# Altium integrated library Texas Instruments Interface 1394.IntLib: 47 symbols (part 13 of 17)
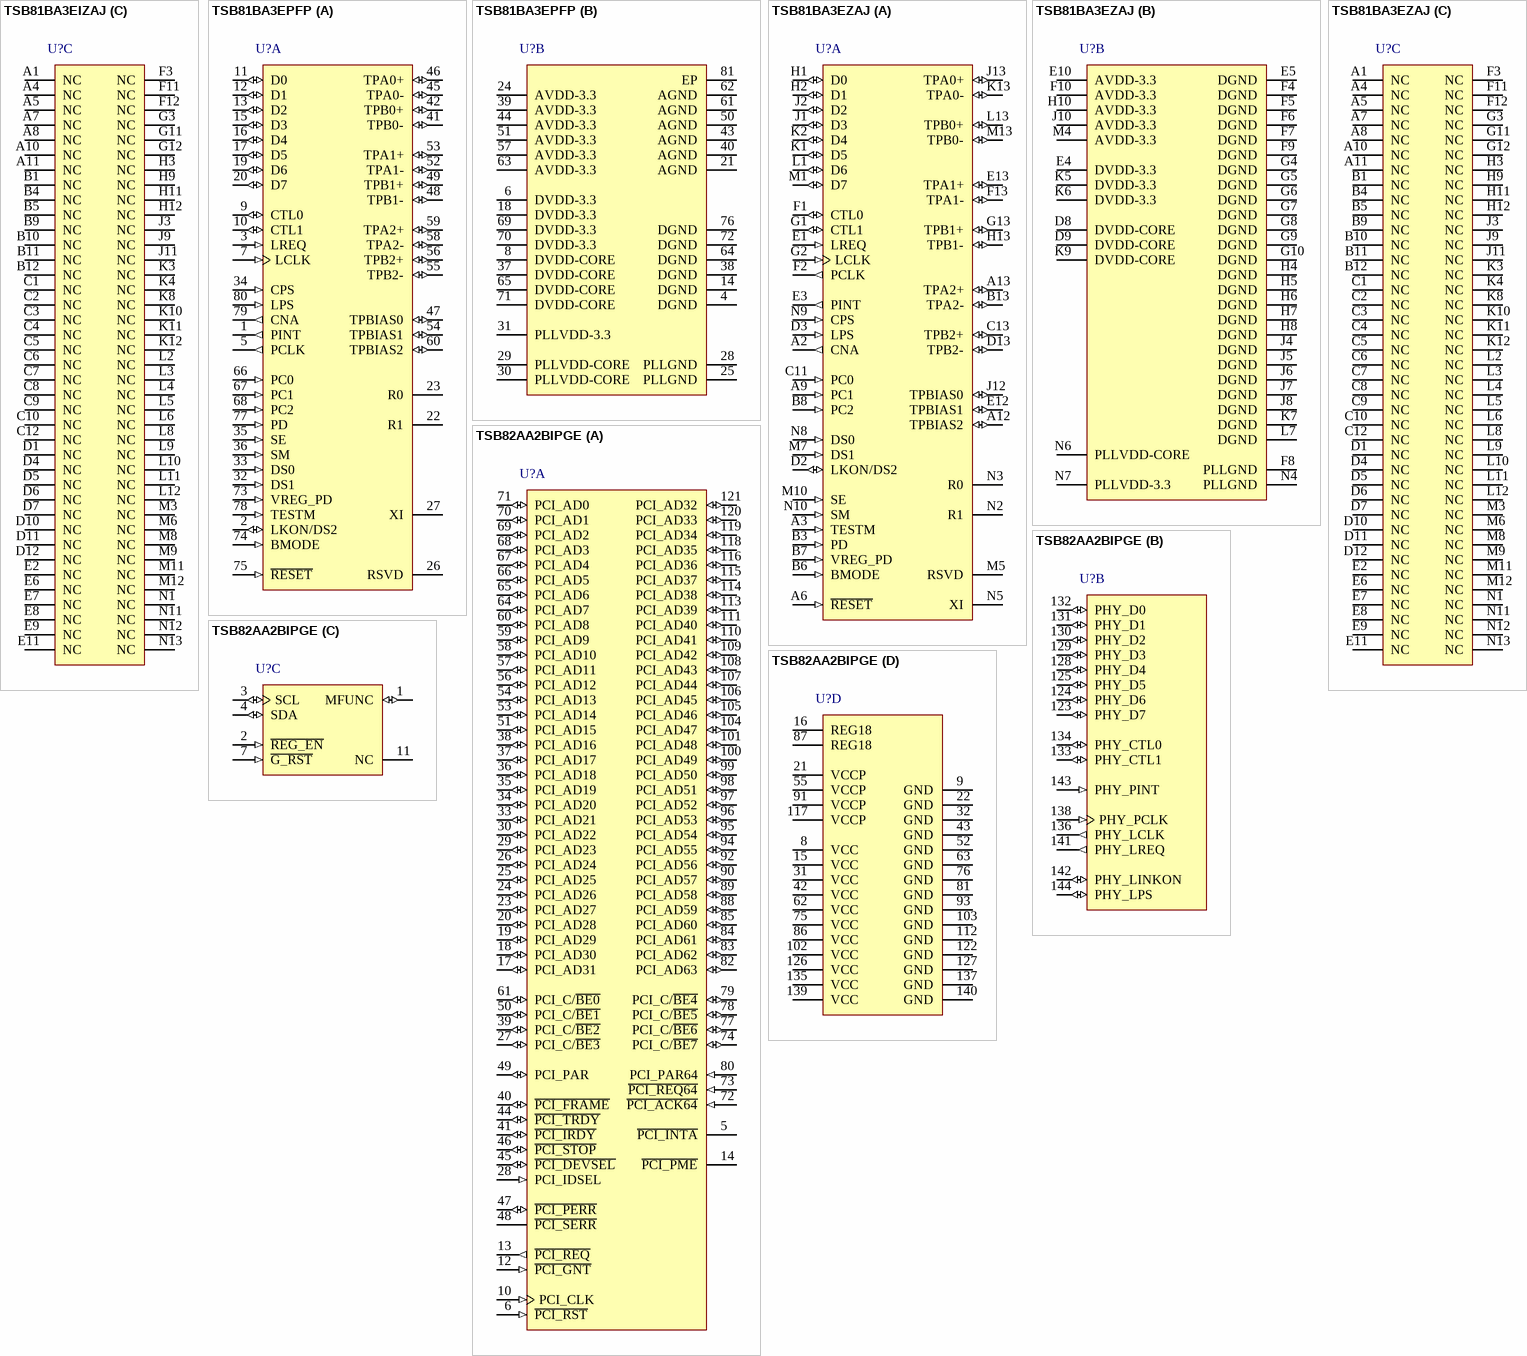
[diagram p23: symbols TSB81BA3EIZAJ to TSB82AA2BIPGE]

## TSB81BA3EZAJ
designator U?
800 Mbps IEEE P1394b Three-Port Cable Transceiver Arbiter, 1.8 / 3.3V, 0 to 70 degC, 168-Pin NFBGA (ZAJ), Green (RoHS & no Sb/Br); PartNumber: TSB81BA3EZAJ; Manufacturer: Texas Instruments; SubFamily: 1394 Physical Layer Controller; Speed(Max)(Mbps): 800; Ports: 3; Supply Voltage(s)(V): 1.8, 3.3; 1394: True; Rating: Catalog; DatasheetVersion: SLLS783A; PackageVersion: revD, Aug-2008; PackageReference: ZAJ168; PackageDescription: 168-Ball Plastic Ball Grid Array, 7 x 7 mm Body, 0.5 mm Pitch; Mounting Technology: Surface Mount; Eco-Plan: Green (RoHS & no Sb/Br); 1394b: True; ComponentLink1Description: Datasheet; ComponentLink1URL: http://www.ti.com/general/docs/lit/getliterature.tsp?genericPartNumber=TSB81BA3E&fileType=pdf; ComponentLink2Description: Package Specification; ComponentLink2URL: http://www.ti.com/lit/ml/mpbg233/mpbg233.pdf
footprint ZAJ168 (BGA, 168-Leads, Body 7x7mm, Pitch 0.5mm)
part A pins: A2 CNA (out) "Cable not active output.This terminal is asserted high when there are no ports receiving incoming bias voltage. When any port receives bias, this terminal goes low.", A3 TESTM (in) "Test control input. This input is used in the manufacturing test of the TSB81BA3E. For normal use this terminal must be pulled high through a 1-k ohm resistor to VDD.", A6 ~{RESET} (in) "Logic reset input. Asserting this terminal low resets the internal logic. [see datasheet]", A9 PC1 (in) "Power class programming inputs. On hardware reset, these inputs set the default value of the power class indicated during self-ID. [see datasheet]", A12 TPBIAS2 (io) "Twisted-pair bias output and signal detect input. This provides the 1. [see datasheet]", A13 TPA2+ (io) "Port-2 twisted-pair differential-signal terminals. [see datasheet]", B3 PD (in) "Power-down input. A high on this terminal turns off all internal circuitry except the cable-active monitor circuits, which control the CNA output. [see datasheet]", B6 BMODE (in) "Beta-mode input. This terminal determines the PHY-link interface connection protocol. [see datasheet]", B7 VREG_PD (in) "Voltage regulator power-down input. When asserted logic high, this pin will power-down the internal 3.3-V to 1.95-V regulator. For single 3. [see datasheet]", B8 PC2 (in) "Power class programming inputs. On hardware reset, these inputs set the default value of the power class indicated during self-ID. [see datasheet]", B13 TPA2- (io) "Port-2 twisted-pair differential-signal terminals. [see datasheet]", C11 PC0 (in) "Power class programming inputs. On hardware reset, these inputs set the default value of the power class indicated during self-ID. [see datasheet]", C13 TPB2+ (io) "Port-2 twisted-pair differential-signal terminals. [see datasheet]", D2 LKON/DS2 (io) "Link-on output/Data-strobe-only input for port 2. [see datasheet]", D3 LPS (in) "Link power status input. This terminal monitors the active/power status of the link-layer controller (LLC) and controls the state of the PHY-LLC interface. [see datasheet]", D13 TPB2- (io) "Port-2 twisted-pair differential-signal terminals. [see datasheet]", E1 LREQ (in) "LLC request input. The LLC uses this input to initiate a service request to the TSB81BA3E. A bus holder is built into this terminal.", E3 PINT (out) "PHY interrupt. The PHY uses this output to serially transfer status and interrupt information to the link when PHY-link interface is in the 1394b mode. [see datasheet]", E12 TPBIAS1 (io) "Twisted-pair bias output and signal detect input. This provides the 1. [see datasheet]", E13 TPA1+ (io) "Port-1 twisted-pair differential-signal terminals. [see datasheet]", F1 CTL0 (io) "Control I/Os. These bidirectional signals control communication between the TSB81BA3E and the LLC. Bus holders are built into these terminals.", F2 PCLK (out) "PHY clock. Provides a 98.304-MHz clock signal, synchronized with data transfers, to the LLC when the PHY-link interface is operating in the 1394b mode (BMODE asserted). [see datasheet]", F13 TPA1- (io) "Port-1 twisted-pair differential-signal terminals. [see datasheet]", G1 CTL1 (io) "Control I/Os. These bidirectional signals control communication between the TSB81BA3E and the LLC. Bus holders are built into these terminals.", G2 LCLK (in) "Link clock. Link-provided 98.304-MHz clock signal to synchronize data transfers from link to the PHY when the PHY-link interface is in the 1394b mode. [see datasheet]", G13 TPB1+ (io) "Port-1 twisted-pair differential-signal terminals. [see datasheet]", H1 D0 (io) "Data I/Os. These are bidirectional data signals between the TSB82BA3 and the LLC. Bus holders are built into these terminals.", H2 D1 (io) "Data I/Os. These are bidirectional data signals between the TSB82BA3 and the LLC. Bus holders are built into these terminals.", H13 TPB1- (io) "Port-1 twisted-pair differential-signal terminals. [see datasheet]", J1 D3 (io) "Data I/Os. These are bidirectional data signals between the TSB82BA3 and the LLC. Bus holders are built into these terminals.", J2 D2 (io) "Data I/Os. These are bidirectional data signals between the TSB82BA3 and the LLC. Bus holders are built into these terminals.", J12 TPBIAS0 (io) "Twisted-pair bias output and signal detect input. This provides the 1. [see datasheet]", J13 TPA0+ (io) "Port-0 twisted-pair differential-signal terminals. [see datasheet]", K1 D5 (io) "Data I/Os. These are bidirectional data signals between the TSB82BA3 and the LLC. Bus holders are built into these terminals.", K2 D4 (io) "Data I/Os. These are bidirectional data signals between the TSB82BA3 and the LLC. Bus holders are built into these terminals.", K13 TPA0- (io) "Port-0 twisted-pair differential-signal terminals. [see datasheet]", L1 D6 (io) "Data I/Os. These are bidirectional data signals between the TSB82BA3 and the LLC. Bus holders are built into these terminals.", L13 TPB0+ (io) "Port-0 twisted-pair differential-signal terminals. [see datasheet]", M1 D7 (io) "Data I/Os. These are bidirectional data signals between the TSB82BA3 and the LLC. Bus holders are built into these terminals.", M5 RSVD "This terminal must normally be left unconnected. When this terminal is probed, the terminal shows a 98.304-MHz signal. If this is perceived as an EMI problem, then the terminal may be pulled to ground through a 10-k ohm resistor. However, this causes an", M7 DS1 (in) "Data-strobe-only mode for port 1. 1394a-only port 1 enable programming terminal. [see datasheet]", M10 SE (in) "Test control input. This input is used in the manufacturing test of the TSB81BA3E. [see datasheet]", M13 TPB0- (io) "Port-0 twisted-pair differential-signal terminals. [see datasheet]", N2 R1 "Current setting resistor terminals. These terminals are connected to a precision external resistance to set the internal operating currents and cable driver output currents. [see datasheet]", N3 R0 "Current setting resistor terminals. These terminals are connected to a precision external resistance to set the internal operating currents and cable driver output currents. [see datasheet]", N5 XI "Oscillator input. This terminal connects to a 98.304-MHz low jitter external oscillator. The XI terminal is a 1.8-V CMOS input.Oscillator jitter must be 5 ps RMS or better.If only 3. [see datasheet]", N8 DS0 (in) "Data-strobe-only mode for port 0. 1394a-only port 1 enable programming terminal. [see datasheet]", N9 CPS (in) "Cable-power status input.This terminal is normally connected to cable power through a 400-k ohm resistor. [see datasheet]", N10 SM (in) "Test control input. This input is used in the manufacturing test of the TSB81BA3E. [see datasheet]"
part B pins: D8 DVDD-CORE (power) "Digital core circuit power terminals.A combination of high-frequency decoupling capacitors near each terminal is suggested, such as paralleled 0.1uF and 0.001uF. [see datasheet]", D9 DVDD-CORE (power) "Digital core circuit power terminals.A combination of high-frequency decoupling capacitors near each terminal is suggested, such as paralleled 0.1uF and 0.001uF. [see datasheet]", E4 DVDD-3.3 (power) "Digital 3.3-V circuit power terminals. A combination of high-frequency decoupling capacitors near each terminal is suggested, such as paralleled 0.1 uF and 0.001 uF. [see datasheet]", E5 DGND (power) "Digital circuit ground terminals. These terminals must be tied together to the low-impedance circuit board ground plane.", E10 AVDD-3.3 (power) "Analog circuit power terminals. A combination of high-frequency decoupling capacitors near each terminal is suggested, such as paralleled 0.1 uF and 0.001 uF. [see datasheet]", F4 DGND (power) "Digital circuit ground terminals. These terminals must be tied together to the low-impedance circuit board ground plane.", F5 DGND (power) "Digital circuit ground terminals. These terminals must be tied together to the low-impedance circuit board ground plane.", F6 DGND (power) "Digital circuit ground terminals. These terminals must be tied together to the low-impedance circuit board ground plane.", F7 DGND (power) "Digital circuit ground terminals. These terminals must be tied together to the low-impedance circuit board ground plane.", F8 PLLGND (power) "PLL circuit ground terminals. These terminals must be tied together to the low-impedance circuit board ground plane.", F9 DGND (power) "Digital circuit ground terminals. These terminals must be tied together to the low-impedance circuit board ground plane.", F10 AVDD-3.3 (power) "Analog circuit power terminals. A combination of high-frequency decoupling capacitors near each terminal is suggested, such as paralleled 0.1 uF and 0.001 uF. [see datasheet]", G4 DGND (power) "Digital circuit ground terminals. These terminals must be tied together to the low-impedance circuit board ground plane.", G5 DGND (power) "Digital circuit ground terminals. These terminals must be tied together to the low-impedance circuit board ground plane.", G6 DGND (power) "Digital circuit ground terminals. These terminals must be tied together to the low-impedance circuit board ground plane.", G7 DGND (power) "Digital circuit ground terminals. These terminals must be tied together to the low-impedance circuit board ground plane.", G8 DGND (power) "Digital circuit ground terminals. These terminals must be tied together to the low-impedance circuit board ground plane.", G9 DGND (power) "Digital circuit ground terminals. These terminals must be tied together to the low-impedance circuit board ground plane.", G10 DGND (power) "Digital circuit ground terminals. These terminals must be tied together to the low-impedance circuit board ground plane.", H4 DGND (power) "Digital circuit ground terminals. These terminals must be tied together to the low-impedance circuit board ground plane.", H5 DGND (power) "Digital circuit ground terminals. These terminals must be tied together to the low-impedance circuit board ground plane.", H6 DGND (power) "Digital circuit ground terminals. These terminals must be tied together to the low-impedance circuit board ground plane.", H7 DGND (power) "Digital circuit ground terminals. These terminals must be tied together to the low-impedance circuit board ground plane.", H8 DGND (power) "Digital circuit ground terminals. These terminals must be tied together to the low-impedance circuit board ground plane.", H10 AVDD-3.3 (power) "Analog circuit power terminals. A combination of high-frequency decoupling capacitors near each terminal is suggested, such as paralleled 0.1 uF and 0.001 uF. [see datasheet]", J4 DGND (power) "Digital circuit ground terminals. These terminals must be tied together to the low-impedance circuit board ground plane.", J5 DGND (power) "Digital circuit ground terminals. These terminals must be tied together to the low-impedance circuit board ground plane.", J6 DGND (power) "Digital circuit ground terminals. These terminals must be tied together to the low-impedance circuit board ground plane.", J7 DGND (power) "Digital circuit ground terminals. These terminals must be tied together to the low-impedance circuit board ground plane.", J8 DGND (power) "Digital circuit ground terminals. These terminals must be tied together to the low-impedance circuit board ground plane.", J10 AVDD-3.3 (power) "Analog circuit power terminals. A combination of high-frequency decoupling capacitors near each terminal is suggested, such as paralleled 0.1 uF and 0.001 uF. [see datasheet]", K5 DVDD-3.3 (power) "Digital 3.3-V circuit power terminals. A combination of high-frequency decoupling capacitors near each terminal is suggested, such as paralleled 0.1 uF and 0.001 uF. [see datasheet]", K6 DVDD-3.3 (power) "Digital 3.3-V circuit power terminals. A combination of high-frequency decoupling capacitors near each terminal is suggested, such as paralleled 0.1 uF and 0.001 uF. [see datasheet]", K7 DGND (power) "Digital circuit ground terminals. These terminals must be tied together to the low-impedance circuit board ground plane.", K9 DVDD-CORE (power) "Digital core circuit power terminals.A combination of high-frequency decoupling capacitors near each terminal is suggested, such as paralleled 0.1uF and 0.001uF. [see datasheet]", L7 DGND (power) "Digital circuit ground terminals. These terminals must be tied together to the low-impedance circuit board ground plane.", M4 AVDD-3.3 (power) "Analog circuit power terminals. A combination of high-frequency decoupling capacitors near each terminal is suggested, such as paralleled 0.1 uF and 0.001 uF. [see datasheet]", N4 PLLGND (power) "PLL circuit ground terminals. These terminals must be tied together to the low-impedance circuit board ground plane.", N6 PLLVDD-CORE (power) "PLL core circuit power terminals. A combination of high-frequency decoupling capacitors near each terminal is suggested, such as paralleled 0.1 uF and 0.001 uF. An additional 1-uF capacitor is required for voltage regulation. [see datasheet]", N7 PLLVDD-3.3 (power) "PLL 3.3-V circuit power terminal. A combination of high-frequency decoupling capacitors near the terminal are suggested, such as paralleled 0.1uF and 0.001uF. Lower frequency 10-uF filtering capacitors are also recommended. [see datasheet]"
part C pins: A1 NC, A4 NC, A5 NC, A7 NC, A8 NC, A10 NC, A11 NC, B1 NC, B4 NC, B5 NC, B9 NC, B10 NC, B11 NC, B12 NC, C1 NC, C2 NC, C3 NC, C4 NC, C5 NC, C6 NC, C7 NC, C8 NC, C9 NC, C10 NC, C12 NC, D1 NC, D4 NC, D5 NC, D6 NC, D7 NC, D10 NC, D11 NC, D12 NC, E2 NC, E6 NC, E7 NC, E8 NC, E9 NC, E11 NC, F3 NC, F11 NC, F12 NC, G3 NC, G11 NC, G12 NC, H3 NC, H9 NC, H11 NC, H12 NC, J3 NC, J9 NC, J11 NC, K3 NC, K4 NC, K8 NC, K10 NC, K11 NC, K12 NC, L2 NC, L3 NC, L4 NC, L5 NC, L6 NC, L8 NC, L9 NC, L10 NC, L11 NC, L12 NC, M3 NC, M6 NC, M8 NC, M9 NC, M11 NC, M12 NC, N1 NC, N11 NC, N12 NC, N13 NC

## TSB82AA2BIPGE
designator U?
1394b OHCI-Lynx Controller, -40 to 85 degC, 144-Pin LQFP (PGE), Green (RoHS & no Sb/Br); PartNumber: TSB82AA2BIPGE; Manufacturer: Texas Instruments; SubFamily: 1394 Link Layer Controller; Speed(Max)(Mbps): 800; FIFO(kb): 11; Supply Voltage(s)(V): 3.3; DatasheetVersion: SCPS172A; PackageVersion: revC, Oct-1996; PackageReference: PGE144; PackageDescription: 144-Pin Plastic Quad Flat Pack, 20 x 20 mm Body, 0.5 mm Pitch; Mounting Technology: Surface Mount; ComponentLink1Description: Datasheet; ComponentLink1URL: http://www.ti.com/general/docs/lit/getliterature.tsp?genericPartNumber=TSB82AA2B&fileType=pdf; ComponentLink2Description: Package Specification; ComponentLink2URL: http://www.ti.com/litv/pdf/mtqf017a
footprint TI-PGE144_N (Thin QFP, 144-Leads, Body 20x20mm, Pitch 0.5mm, IPC Medium Density)
footprint TI-PGE144_L (Thin QFP, 144-Leads, Body 20x20mm, Pitch 0.5mm, IPC High Density)
footprint TI-PGE144_M (Thin QFP, 144-Leads, Body 20x20mm, Pitch 0.5mm, IPC Low Density)
part A pins: 5 ~{PCI_INTA} (oc) "Interrupt signal. This output indicates interrupts from the TSB82AA2B device to the host. This terminal is implemented as open-drain.", 6 ~{PCI_RST} (in) "PCI reset. [see datasheet]", 10 PCI_CLK (in) "PCI bus clock. Provides timing for all transactions on the PCI bus. All PCI signals are sampled at the rising edge of PCI_CLK.", 12 ~{PCI_GNT} (in) "PCI bus grant. This signal is driven by the PCI bus arbiter to grant the TSB82AA2B device access to the PCI bus after the current data transaction has completed. [see datasheet]", 13 ~{PCI_REQ} (out) "PCI bus request. Asserted by the TSB82AA2B device to request access to the bus as an initiator. [see datasheet]", 14 ~{PCI_PME} (oc) "This terminal indicates wake events to the host. [see datasheet]", 17 PCI_AD31 (io) "PCI address/data bus for the lower DWORD. These signals make up the multiplexed PCI address and data bus for the lower 32 bits on the PCI interface. [see datasheet]", 18 PCI_AD30 (io) "PCI address/data bus for the lower DWORD. These signals make up the multiplexed PCI address and data bus for the lower 32 bits on the PCI interface. [see datasheet]", 19 PCI_AD29 (io) "PCI address/data bus for the lower DWORD. These signals make up the multiplexed PCI address and data bus for the lower 32 bits on the PCI interface. [see datasheet]", 20 PCI_AD28 (io) "PCI address/data bus for the lower DWORD. These signals make up the multiplexed PCI address and data bus for the lower 32 bits on the PCI interface. [see datasheet]", 23 PCI_AD27 (io) "PCI address/data bus for the lower DWORD. These signals make up the multiplexed PCI address and data bus for the lower 32 bits on the PCI interface. [see datasheet]", 24 PCI_AD26 (io) "PCI address/data bus for the lower DWORD. These signals make up the multiplexed PCI address and data bus for the lower 32 bits on the PCI interface. [see datasheet]", 25 PCI_AD25 (io) "PCI address/data bus for the lower DWORD. These signals make up the multiplexed PCI address and data bus for the lower 32 bits on the PCI interface. [see datasheet]", 26 PCI_AD24 (io) "PCI address/data bus for the lower DWORD. These signals make up the multiplexed PCI address and data bus for the lower 32 bits on the PCI interface. [see datasheet]", 27 PCI_C/~{BE3} (io) "PCI bus commands and byte enables for lower DWORD. The command and byte enable signals are multiplexed on the same PCI terminals. [see datasheet]", 28 PCI_IDSEL (in) "Initialization device select. PCI_IDSEL selects the TSB82AA2B device during configuration space accesses. [see datasheet]", 29 PCI_AD23 (io) "PCI address/data bus for the lower DWORD. These signals make up the multiplexed PCI address and data bus for the lower 32 bits on the PCI interface. [see datasheet]", 30 PCI_AD22 (io) "PCI address/data bus for the lower DWORD. These signals make up the multiplexed PCI address and data bus for the lower 32 bits on the PCI interface. [see datasheet]", 33 PCI_AD21 (io) "PCI address/data bus for the lower DWORD. These signals make up the multiplexed PCI address and data bus for the lower 32 bits on the PCI interface. [see datasheet]", 34 PCI_AD20 (io) "PCI address/data bus for the lower DWORD. These signals make up the multiplexed PCI address and data bus for the lower 32 bits on the PCI interface. [see datasheet]", 35 PCI_AD19 (io) "PCI address/data bus for the lower DWORD. These signals make up the multiplexed PCI address and data bus for the lower 32 bits on the PCI interface. [see datasheet]", 36 PCI_AD18 (io) "PCI address/data bus for the lower DWORD. These signals make up the multiplexed PCI address and data bus for the lower 32 bits on the PCI interface. [see datasheet]", 37 PCI_AD17 (io) "PCI address/data bus for the lower DWORD. These signals make up the multiplexed PCI address and data bus for the lower 32 bits on the PCI interface. [see datasheet]", 38 PCI_AD16 (io) "PCI address/data bus for the lower DWORD. These signals make up the multiplexed PCI address and data bus for the lower 32 bits on the PCI interface. [see datasheet]", 39 PCI_C/~{BE2} (io) "PCI bus commands and byte enables for lower DWORD. The command and byte enable signals are multiplexed on the same PCI terminals. [see datasheet]", 40 ~{PCI_FRAME} (io) "PCI cycle frame. This signal is driven by the initiator of a PCI bus cycle. [see datasheet]", 41 ~{PCI_IRDY} (io) "PCI initiator ready. P\C\I\_\I\R\D\Y\ indicates the ability of the PCI bus initiator to complete the current data phase of the transaction. [see datasheet]", 44 ~{PCI_TRDY} (io) "PCI target ready. P\C\I\_\T\R\D\Y\ indicates the ability of the PCI bus target to complete the current data phase of the transaction. [see datasheet]", 45 ~{PCI_DEVSEL} (io) "PCI device select. The TSB82AA2B device asserts this signal to claim a PCI cycle as the target device. [see datasheet]", 46 ~{PCI_STOP} (io) "PCI cycle stop signal. This signal is driven by a PCI target to request the initiator to stop the current PCI bus transaction. [see datasheet]", 47 ~{PCI_PERR} (io) "PCI parity error indicator. [see datasheet]", 48 ~{PCI_SERR} (oc) "PCI system error. [see datasheet]", 49 PCI_PAR (io) "PCI parity. In all PCI bus read and write cycles, the TSB82AA2B device calculates even parity across the PCI_AD31-PCI_AD0 and PCI_C/B\E\0\-PCI_C/B\E\3\ buses. [see datasheet]", 50 PCI_C/~{BE1} (io) "PCI bus commands and byte enables for lower DWORD. The command and byte enable signals are multiplexed on the same PCI terminals. [see datasheet]", 51 PCI_AD15 (io) "PCI address/data bus for the lower DWORD. These signals make up the multiplexed PCI address and data bus for the lower 32 bits on the PCI interface. [see datasheet]", 53 PCI_AD14 (io) "PCI address/data bus for the lower DWORD. These signals make up the multiplexed PCI address and data bus for the lower 32 bits on the PCI interface. [see datasheet]", 54 PCI_AD13 (io) "PCI address/data bus for the lower DWORD. These signals make up the multiplexed PCI address and data bus for the lower 32 bits on the PCI interface. [see datasheet]", 56 PCI_AD12 (io) "PCI address/data bus for the lower DWORD. These signals make up the multiplexed PCI address and data bus for the lower 32 bits on the PCI interface. [see datasheet]", 57 PCI_AD11 (io) "PCI address/data bus for the lower DWORD. These signals make up the multiplexed PCI address and data bus for the lower 32 bits on the PCI interface. [see datasheet]", 58 PCI_AD10 (io) "PCI address/data bus for the lower DWORD. These signals make up the multiplexed PCI address and data bus for the lower 32 bits on the PCI interface. [see datasheet]", 59 PCI_AD9 (io) "PCI address/data bus for the lower DWORD. These signals make up the multiplexed PCI address and data bus for the lower 32 bits on the PCI interface. [see datasheet]", 60 PCI_AD8 (io) "PCI address/data bus for the lower DWORD. These signals make up the multiplexed PCI address and data bus for the lower 32 bits on the PCI interface. [see datasheet]", 61 PCI_C/~{BE0} (io) "PCI bus commands and byte enables for lower DWORD. The command and byte enable signals are multiplexed on the same PCI terminals. [see datasheet]", 64 PCI_AD7 (io) "PCI address/data bus for the lower DWORD. These signals make up the multiplexed PCI address and data bus for the lower 32 bits on the PCI interface. [see datasheet]", 65 PCI_AD6 (io) "PCI address/data bus for the lower DWORD. These signals make up the multiplexed PCI address and data bus for the lower 32 bits on the PCI interface. [see datasheet]", 66 PCI_AD5 (io) "PCI address/data bus for the lower DWORD. These signals make up the multiplexed PCI address and data bus for the lower 32 bits on the PCI interface. [see datasheet]", 67 PCI_AD4 (io) "PCI address/data bus for the lower DWORD. These signals make up the multiplexed PCI address and data bus for the lower 32 bits on the PCI interface. [see datasheet]", 68 PCI_AD3 (io) "PCI address/data bus for the lower DWORD. These signals make up the multiplexed PCI address and data bus for the lower 32 bits on the PCI interface. [see datasheet]", 69 PCI_AD2 (io) "PCI address/data bus for the lower DWORD. These signals make up the multiplexed PCI address and data bus for the lower 32 bits on the PCI interface. [see datasheet]", 70 PCI_AD1 (io) "PCI address/data bus for the lower DWORD. These signals make up the multiplexed PCI address and data bus for the lower 32 bits on the PCI interface. [see datasheet]", 71 PCI_AD0 (io) "PCI address/data bus for the lower DWORD. These signals make up the multiplexed PCI address and data bus for the lower 32 bits on the PCI interface. [see datasheet]", 72 ~{PCI_ACK64} (in) "PCI bus 64-bit transfer acknowledge. [see datasheet]", 73 ~{PCI_REQ64} (in) "PCI bus request for 64-bit transfer. Asserted by a bus master to request a 64-bit transfer for a memory transaction. The timing of P\I\_\R\E\Q\6\4\ is identical to P\C\I\_\F\R\A\M\E\. [see datasheet]", 74 PCI_C/~{BE7} (io) "PCI bus commands and byte enables for the upper DWORD. [see datasheet]", 77 PCI_C/~{BE6} (io) "PCI bus commands and byte enables for the upper DWORD. [see datasheet]", 78 PCI_C/~{BE5} (io) "PCI bus commands and byte enables for the upper DWORD. [see datasheet]", 79 PCI_C/~{BE4} (io) "PCI bus commands and byte enables for the upper DWORD. [see datasheet]", 80 PCI_PAR64 (in) "PCI parity for the upper DWORD. In all PCI bus read and write cycles, the TSB82AA2B device calculates even parity across the PCI_AD63-PCI_AD32 and PCI_C/B\E\4\-PCI_C/B\E\7\ buses. [see datasheet]", 82 PCI_AD63 (io) "PCI address/data bus for the upper DWORD. These signals make up the multiplexed PCI address and data bus for the upper 32 bits of the PCI interface. [see datasheet]", 83 PCI_AD62 (io) "PCI address/data bus for the upper DWORD. These signals make up the multiplexed PCI address and data bus for the upper 32 bits of the PCI interface. [see datasheet]", 84 PCI_AD61 (io) "PCI address/data bus for the upper DWORD. These signals make up the multiplexed PCI address and data bus for the upper 32 bits of the PCI interface. [see datasheet]", 85 PCI_AD60 (io) "PCI address/data bus for the upper DWORD. These signals make up the multiplexed PCI address and data bus for the upper 32 bits of the PCI interface. [see datasheet]", 88 PCI_AD59 (io) "PCI address/data bus for the upper DWORD. These signals make up the multiplexed PCI address and data bus for the upper 32 bits of the PCI interface. [see datasheet]", 89 PCI_AD58 (io) "PCI address/data bus for the upper DWORD. These signals make up the multiplexed PCI address and data bus for the upper 32 bits of the PCI interface. [see datasheet]", 90 PCI_AD57 (io) "PCI address/data bus for the upper DWORD. These signals make up the multiplexed PCI address and data bus for the upper 32 bits of the PCI interface. [see datasheet]", 92 PCI_AD56 (io) "PCI address/data bus for the upper DWORD. These signals make up the multiplexed PCI address and data bus for the upper 32 bits of the PCI interface. [see datasheet]", 94 PCI_AD55 (io) "PCI address/data bus for the upper DWORD. These signals make up the multiplexed PCI address and data bus for the upper 32 bits of the PCI interface. [see datasheet]", 95 PCI_AD54 (io) "PCI address/data bus for the upper DWORD. These signals make up the multiplexed PCI address and data bus for the upper 32 bits of the PCI interface. [see datasheet]", 96 PCI_AD53 (io) "PCI address/data bus for the upper DWORD. These signals make up the multiplexed PCI address and data bus for the upper 32 bits of the PCI interface. [see datasheet]", 97 PCI_AD52 (io) "PCI address/data bus for the upper DWORD. These signals make up the multiplexed PCI address and data bus for the upper 32 bits of the PCI interface. [see datasheet]", 98 PCI_AD51 (io) "PCI address/data bus for the upper DWORD. These signals make up the multiplexed PCI address and data bus for the upper 32 bits of the PCI interface. [see datasheet]", 99 PCI_AD50 (io) "PCI address/data bus for the upper DWORD. These signals make up the multiplexed PCI address and data bus for the upper 32 bits of the PCI interface. [see datasheet]", 100 PCI_AD49 (io) "PCI address/data bus for the upper DWORD. These signals make up the multiplexed PCI address and data bus for the upper 32 bits of the PCI interface. [see datasheet]", 101 PCI_AD48 (io) "PCI address/data bus for the upper DWORD. These signals make up the multiplexed PCI address and data bus for the upper 32 bits of the PCI interface. [see datasheet]", 104 PCI_AD47 (io) "PCI address/data bus for the upper DWORD. These signals make up the multiplexed PCI address and data bus for the upper 32 bits of the PCI interface. [see datasheet]", 105 PCI_AD46 (io) "PCI address/data bus for the upper DWORD. These signals make up the multiplexed PCI address and data bus for the upper 32 bits of the PCI interface. [see datasheet]", 106 PCI_AD45 (io) "PCI address/data bus for the upper DWORD. These signals make up the multiplexed PCI address and data bus for the upper 32 bits of the PCI interface. [see datasheet]", 107 PCI_AD44 (io) "PCI address/data bus for the upper DWORD. These signals make up the multiplexed PCI address and data bus for the upper 32 bits of the PCI interface. [see datasheet]", 108 PCI_AD43 (io) "PCI address/data bus for the upper DWORD. These signals make up the multiplexed PCI address and data bus for the upper 32 bits of the PCI interface. [see datasheet]", 109 PCI_AD42 (io) "PCI address/data bus for the upper DWORD. These signals make up the multiplexed PCI address and data bus for the upper 32 bits of the PCI interface. [see datasheet]", 110 PCI_AD41 (io) "PCI address/data bus for the upper DWORD. These signals make up the multiplexed PCI address and data bus for the upper 32 bits of the PCI interface. [see datasheet]", 111 PCI_AD40 (io) "PCI address/data bus for the upper DWORD. These signals make up the multiplexed PCI address and data bus for the upper 32 bits of the PCI interface. [see datasheet]", 113 PCI_AD39 (io) "PCI address/data bus for the upper DWORD. These signals make up the multiplexed PCI address and data bus for the upper 32 bits of the PCI interface. [see datasheet]", 114 PCI_AD38 (io) "PCI address/data bus for the upper DWORD. These signals make up the multiplexed PCI address and data bus for the upper 32 bits of the PCI interface. [see datasheet]", 115 PCI_AD37 (io) "PCI address/data bus for the upper DWORD. These signals make up the multiplexed PCI address and data bus for the upper 32 bits of the PCI interface. [see datasheet]", 116 PCI_AD36 (io) "PCI address/data bus for the upper DWORD. These signals make up the multiplexed PCI address and data bus for the upper 32 bits of the PCI interface. [see datasheet]", 118 PCI_AD35 (io) "PCI address/data bus for the upper DWORD. These signals make up the multiplexed PCI address and data bus for the upper 32 bits of the PCI interface. [see datasheet]", 119 PCI_AD34 (io) "PCI address/data bus for the upper DWORD. These signals make up the multiplexed PCI address and data bus for the upper 32 bits of the PCI interface. [see datasheet]", 120 PCI_AD33 (io) "PCI address/data bus for the upper DWORD. These signals make up the multiplexed PCI address and data bus for the upper 32 bits of the PCI interface. [see datasheet]", 121 PCI_AD32 (io) "PCI address/data bus for the upper DWORD. These signals make up the multiplexed PCI address and data bus for the upper 32 bits of the PCI interface. [see datasheet]"
part B pins: 123 PHY_D7 (io) "PHY-link interface data. These bidirectional data bus signals carry 1394 packet data, packet speed, and grant type information between the PHY and the link. [see datasheet]", 124 PHY_D6 (io) "PHY-link interface data. These bidirectional data bus signals carry 1394 packet data, packet speed, and grant type information between the PHY and the link. [see datasheet]", 125 PHY_D5 (io) "PHY-link interface data. These bidirectional data bus signals carry 1394 packet data, packet speed, and grant type information between the PHY and the link. [see datasheet]", 128 PHY_D4 (io) "PHY-link interface data. These bidirectional data bus signals carry 1394 packet data, packet speed, and grant type information between the PHY and the link. [see datasheet]", 129 PHY_D3 (io) "PHY-link interface data. These bidirectional data bus signals carry 1394 packet data, packet speed, and grant type information between the PHY and the link. [see datasheet]", 130 PHY_D2 (io) "PHY-link interface data. These bidirectional data bus signals carry 1394 packet data, packet speed, and grant type information between the PHY and the link. [see datasheet]", 131 PHY_D1 (io) "PHY-link interface data. These bidirectional data bus signals carry 1394 packet data, packet speed, and grant type information between the PHY and the link. [see datasheet]", 132 PHY_D0 (io) "PHY-link interface data. These bidirectional data bus signals carry 1394 packet data, packet speed, and grant type information between the PHY and the link. [see datasheet]", 133 PHY_CTL1 (io) "PHY-link interface control. These bidirectional control bus signals indicate the phase of operation of the PHY-link interface. [see datasheet]", 134 PHY_CTL0 (io) "PHY-link interface control. These bidirectional control bus signals indicate the phase of operation of the PHY-link interface. [see datasheet]", 136 PHY_LCLK (out) "Link clock. PHY_LCLK is an output from the TSB82AA2B device that is generated from the incoming PHY_PCLK signal. [see datasheet]", 138 PHY_PCLK (in) "PHY clock. PHY_PCLK is an input to the TSB82AA2B device from the PHY that, when active, provides a nominal 98.304-MHz clock with a nominal 50% duty cycle.", 141 PHY_LREQ (out) "Link request. [see datasheet]", 142 PHY_LINKON (io) "Link-on notification. [see datasheet]", 143 PHY_PINT (in) "PHY interrupt. PHY_PINT is a serial input to the TSB82AA2B device from the PHY that is used to transfer status, register, interrupt, and other information to the link. [see datasheet]", 144 PHY_LPS (io) "Link power status. [see datasheet]"
part C pins: 1 MFUNC (io) "Multifunction terminal. [see datasheet]", 2 ~{REG_EN} (in) "Regulator enable. [see datasheet]", 3 SCL (io) "Serial clock. This terminal provides the SCL serial clock signaling. [see datasheet]", 4 SDA (io) "Serial data. This terminal provides the SDA serial data signaling. [see datasheet]", 7 ~{G_RST} (in) "Global power reset. This reset brings all of the TSB82AA2B internal registers to their default states,including those registers not reset by P\C\I\_\R\S\T\. [see datasheet]", 11 NC "Not connect"
part D pins: 8 VCC (power) "3.3-V power supply terminals. A parallel combination of high frequency decoupling capacitors near each terminal is suggested, such as 0.1 uF and 0.001 uF. [see datasheet]", 9 GND (power) "Ground terminals. These terminals must be tied together to the low-impedance circuit board ground plane.", 15 VCC (power) "3.3-V power supply terminals. A parallel combination of high frequency decoupling capacitors near each terminal is suggested, such as 0.1 uF and 0.001 uF. [see datasheet]", 16 REG18 (power) "The REG18 terminals are connected to the internal 1.8-V core voltage. [see datasheet]", 21 VCCP (power) "PCI signaling clamp voltage power input. PCI signals are clamped per the PCI Local Bus Specification. In addition, if a 5-V ROM is used, the VCCP terminal must be connected to 5 V.", 22 GND (power) "Ground terminals. These terminals must be tied together to the low-impedance circuit board ground plane.", 31 VCC (power) "3.3-V power supply terminals. A parallel combination of high frequency decoupling capacitors near each terminal is suggested, such as 0.1 uF and 0.001 uF. [see datasheet]", 32 GND (power) "Ground terminals. These terminals must be tied together to the low-impedance circuit board ground plane.", 42 VCC (power) "3.3-V power supply terminals. A parallel combination of high frequency decoupling capacitors near each terminal is suggested, such as 0.1 uF and 0.001 uF. [see datasheet]", 43 GND (power) "Ground terminals. These terminals must be tied together to the low-impedance circuit board ground plane.", 52 GND (power) "Ground terminals. These terminals must be tied together to the low-impedance circuit board ground plane.", 55 VCCP (power) "PCI signaling clamp voltage power input. PCI signals are clamped per the PCI Local Bus Specification. In addition, if a 5-V ROM is used, the VCCP terminal must be connected to 5 V.", 62 VCC (power) "3.3-V power supply terminals. A parallel combination of high frequency decoupling capacitors near each terminal is suggested, such as 0.1 uF and 0.001 uF. [see datasheet]", 63 GND (power) "Ground terminals. These terminals must be tied together to the low-impedance circuit board ground plane.", 75 VCC (power) "3.3-V power supply terminals. A parallel combination of high frequency decoupling capacitors near each terminal is suggested, such as 0.1 uF and 0.001 uF. [see datasheet]", 76 GND (power) "Ground terminals. These terminals must be tied together to the low-impedance circuit board ground plane.", 81 GND (power) "Ground terminals. These terminals must be tied together to the low-impedance circuit board ground plane.", 86 VCC (power) "3.3-V power supply terminals. A parallel combination of high frequency decoupling capacitors near each terminal is suggested, such as 0.1 uF and 0.001 uF. [see datasheet]", 87 REG18 (power) "The REG18 terminals are connected to the internal 1.8-V core voltage. [see datasheet]", 91 VCCP (power) "PCI signaling clamp voltage power input. PCI signals are clamped per the PCI Local Bus Specification. In addition, if a 5-V ROM is used, the VCCP terminal must be connected to 5 V.", 93 GND (power) "Ground terminals. These terminals must be tied together to the low-impedance circuit board ground plane.", 102 VCC (power) "3.3-V power supply terminals. A parallel combination of high frequency decoupling capacitors near each terminal is suggested, such as 0.1 uF and 0.001 uF. [see datasheet]", 103 GND (power) "Ground terminals. These terminals must be tied together to the low-impedance circuit board ground plane.", 112 GND (power) "Ground terminals. These terminals must be tied together to the low-impedance circuit board ground plane.", 117 VCCP (power) "PCI signaling clamp voltage power input. PCI signals are clamped per the PCI Local Bus Specification. In addition, if a 5-V ROM is used, the VCCP terminal must be connected to 5 V.", 122 GND (power) "Ground terminals. These terminals must be tied together to the low-impedance circuit board ground plane.", 126 VCC (power) "3.3-V power supply terminals. A parallel combination of high frequency decoupling capacitors near each terminal is suggested, such as 0.1 uF and 0.001 uF. [see datasheet]", 127 GND (power) "Ground terminals. These terminals must be tied together to the low-impedance circuit board ground plane.", 135 VCC (power) "3.3-V power supply terminals. A parallel combination of high frequency decoupling capacitors near each terminal is suggested, such as 0.1 uF and 0.001 uF. [see datasheet]", 137 GND (power) "Ground terminals. These terminals must be tied together to the low-impedance circuit board ground plane.", 139 VCC (power) "3.3-V power supply terminals. A parallel combination of high frequency decoupling capacitors near each terminal is suggested, such as 0.1 uF and 0.001 uF. [see datasheet]", 140 GND (power) "Ground terminals. These terminals must be tied together to the low-impedance circuit board ground plane."

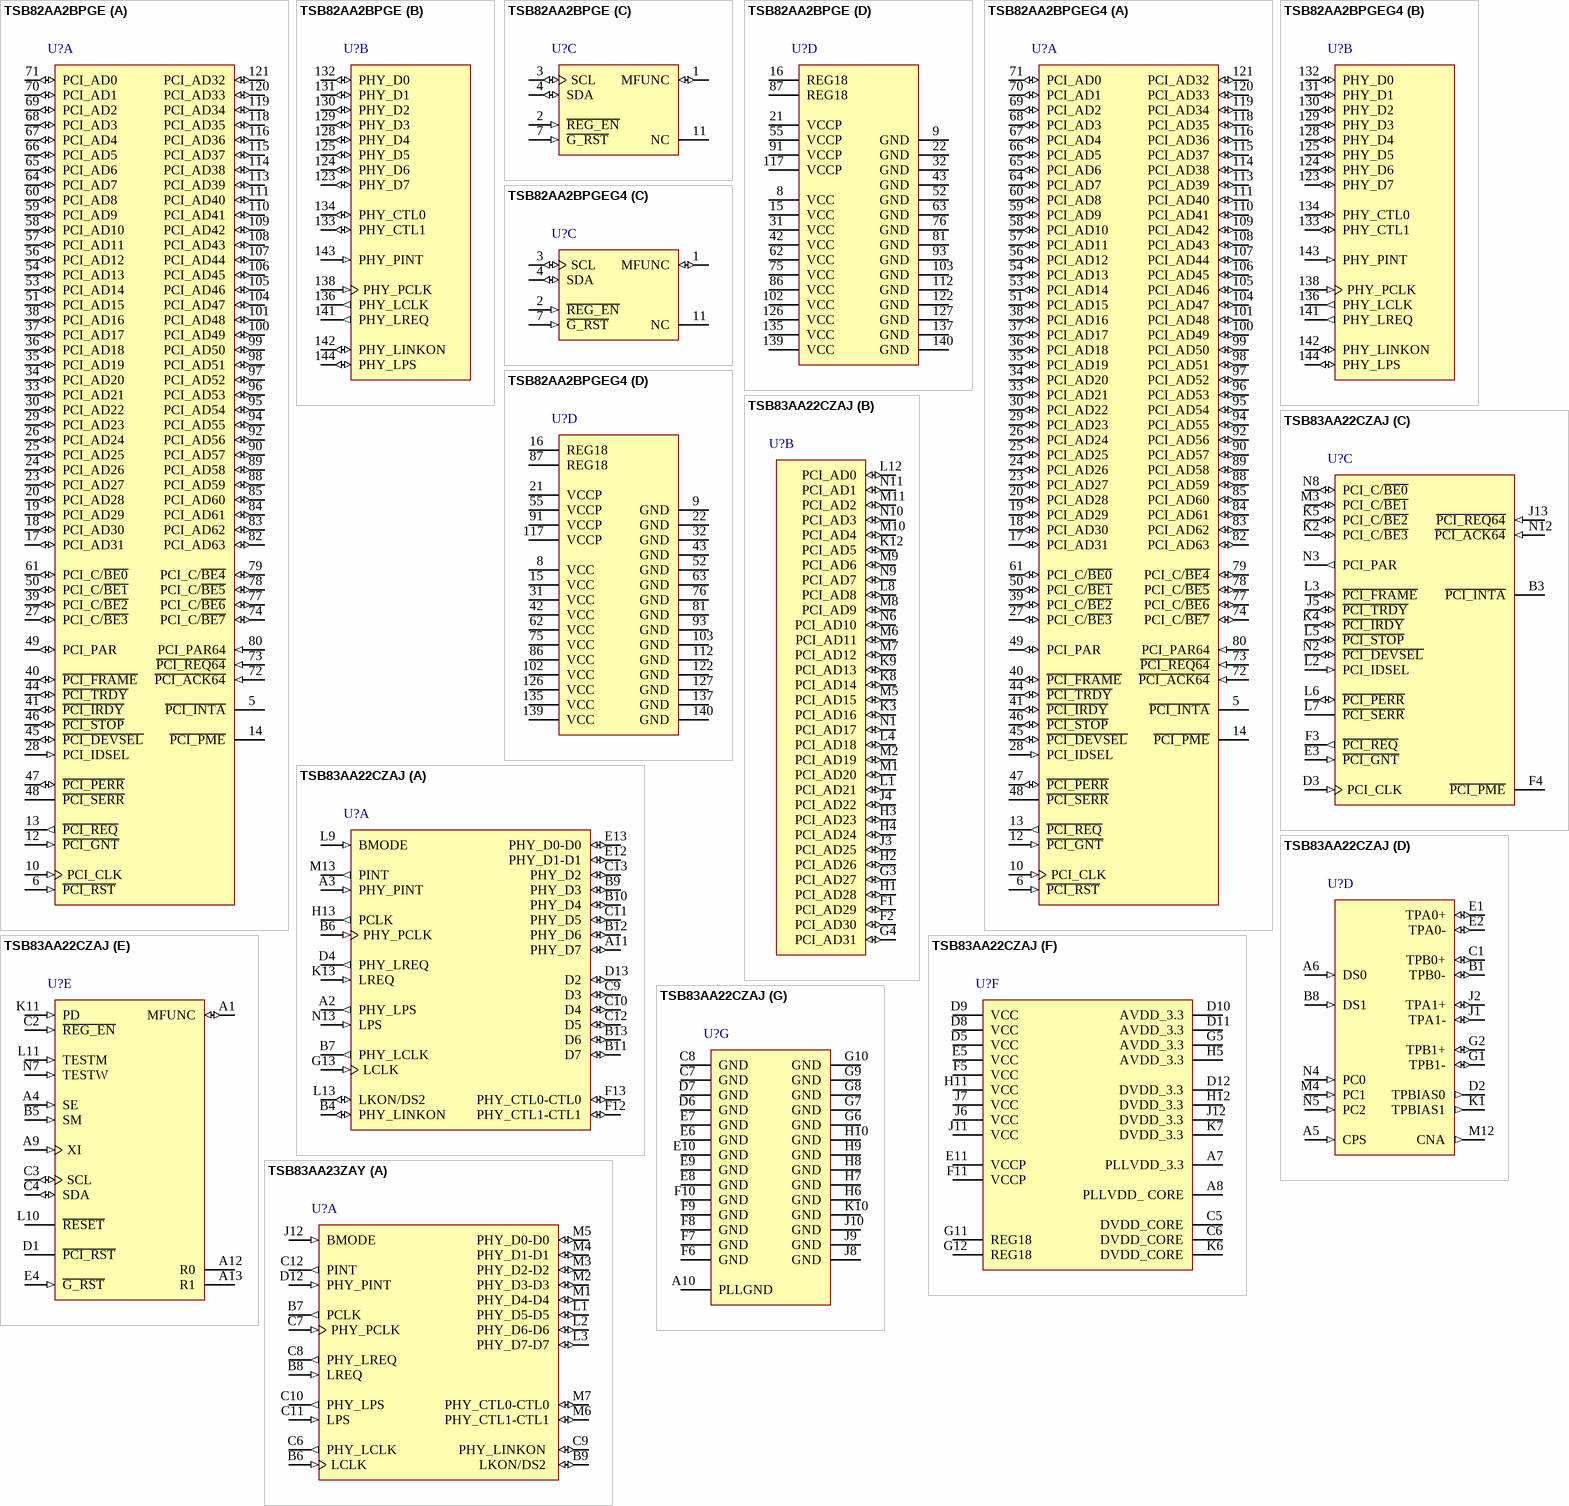
[diagram p8: symbols TSB82AA2BPGE to TSB83AA23ZAY]